# Altium footprint library DXPpcb.PCBLIB: 575 footprints (part 34 of 36)
Each footprint in its own frame and in the unit in brackets; x right, y up, seen from the top. Pads: shape width x height; smd on the part's side, far side on the other; paste and mask are expansions set on the pad; w line width, h text height; cw(c..) or ccw(c..) is an arc to the next point about the centre after c.
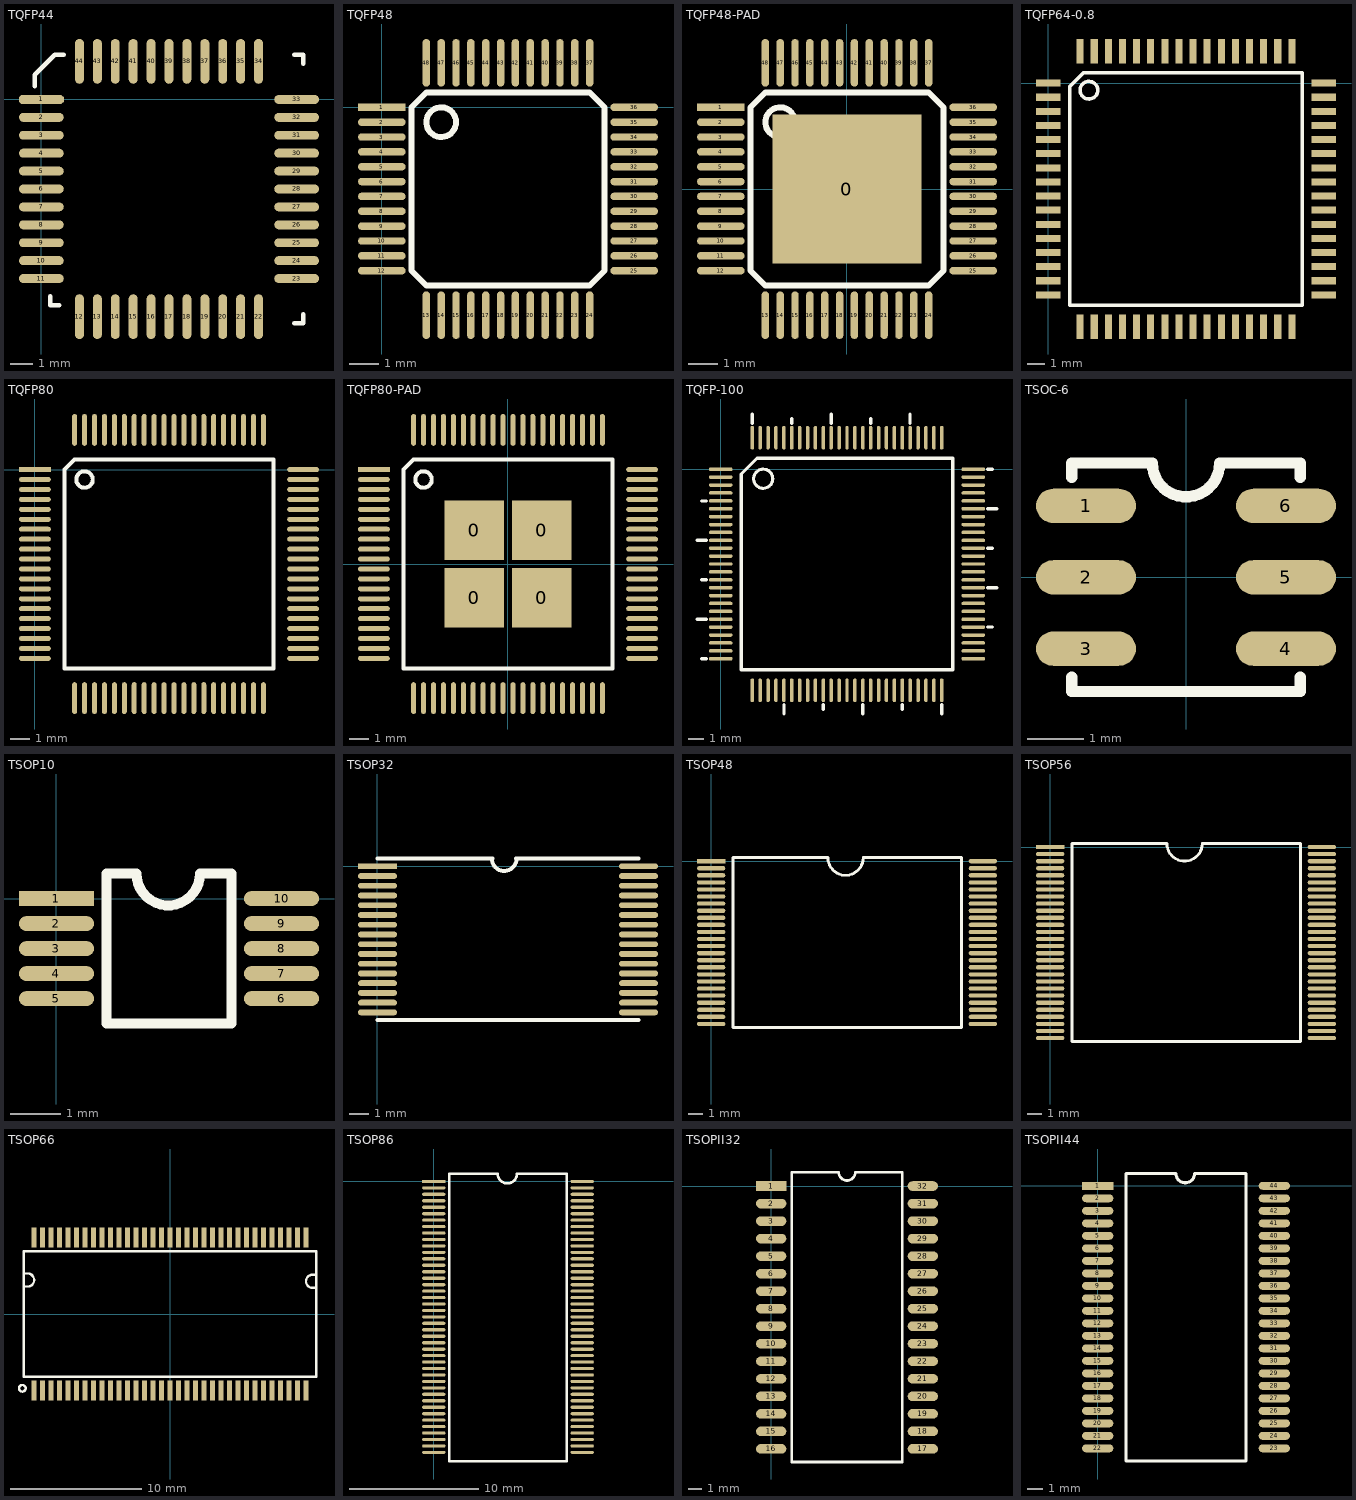
[diagram p33: the footprints below, top view; thin cyan lines are the x and y axes]

## TQFP44 [mm]
pads (44):
  oct 2x0.4 smd: 1(0,0)
  oval 2x0.4 smd: 2(0,-0.8) 3(0,-1.6) 4(0,-2.4) 5(0,-3.2) 6(0,-4) 7(0,-4.8) 8(0,-5.6) 9(0,-6.4) 10(0,-7.2) 11(0,-8) 23(11.4,-8) 24(11.4,-7.2) 25(11.4,-6.4) 26(11.4,-5.6) 27(11.4,-4.8) 28(11.4,-4) 29(11.4,-3.2) 30(11.4,-2.4) 31(11.4,-1.6) 32(11.4,-0.8) 33(11.4,0)
  oval 0.4x2 smd: 12(1.7,-9.7) 13(2.5,-9.7) 14(3.3,-9.7) 15(4.1,-9.7) 16(4.9,-9.7) 17(5.7,-9.7) 18(6.5,-9.7) 19(7.3,-9.7) 20(8.1,-9.7) 21(8.9,-9.7) 22(9.7,-9.7) 34(9.7,1.7) 35(8.9,1.7) 36(8.1,1.7) 37(7.3,1.7) 38(6.5,1.7) 39(5.7,1.7) 40(4.9,1.7) 41(4.1,1.7) 42(3.3,1.7) 43(2.5,1.7) 44(1.7,1.7)
TopOverlay:
  lines w0.2: -0.3,0.6 -0.3,1.1 0.6,2 1,2 ; 0.4,-8.8 0.4,-9.2 0.8,-9.2 ; 11.3,-10 11.7,-10 11.7,-9.6 ; 11.3,2 11.7,2 11.7,1.6

## TQFP48 [mm]
pads (48):
  rect 1.6x0.25 smd: 1(0,0)
  oval 1.6x0.25 smd: 2(0,-0.5) 3(0,-1) 4(0,-1.5) 5(0,-2) 6(0,-2.5) 7(0,-3) 8(0,-3.5) 9(0,-4) 10(0,-4.5) 11(0,-5) 12(0,-5.5) 25(8.5,-5.5) 26(8.5,-5) 27(8.5,-4.5) 28(8.5,-4) 29(8.5,-3.5) 30(8.5,-3) 31(8.5,-2.5) 32(8.5,-2) 33(8.5,-1.5) 34(8.5,-1) 35(8.5,-0.5) 36(8.5,0)
  oval 0.25x1.6 smd: 13(1.5,-7) 14(2,-7) 15(2.5,-7) 16(3,-7) 17(3.5,-7) 18(4,-7) 19(4.5,-7) 20(5,-7) 21(5.5,-7) 22(6,-7) 23(6.5,-7) 24(7,-7) 37(7,1.5) 38(6.5,1.5) 39(6,1.5) 40(5.5,1.5) 41(5,1.5) 42(4.5,1.5) 43(4,1.5) 44(3.5,1.5) 45(3,1.5) 46(2.5,1.5) 47(2,1.5) 48(1.5,1.5)
TopOverlay:
  circle w0.2: c2,-0.5 r0.5
  lines w0.2: 1,-5.5 1.5,-6 7,-6 7.5,-5.5 7.5,0 7,0.5 1.5,0.5 1,0 1,-5.5

## TQFP48-PAD [mm]
pads (49):
  rect 5x5 smd: 0(0,0)
  rect 1.6x0.25 smd: 1(-4.25,2.75)
  oval 1.6x0.25 smd: 2(-4.25,2.25) 3(-4.25,1.75) 4(-4.25,1.25) 5(-4.25,0.75) 6(-4.25,0.25) 7(-4.25,-0.25) 8(-4.25,-0.75) 9(-4.25,-1.25) 10(-4.25,-1.75) 11(-4.25,-2.25) 12(-4.25,-2.75) 25(4.25,-2.75) 26(4.25,-2.25) 27(4.25,-1.75) 28(4.25,-1.25) 29(4.25,-0.75) 30(4.25,-0.25) 31(4.25,0.25) 32(4.25,0.75) 33(4.25,1.25) 34(4.25,1.75) 35(4.25,2.25) 36(4.25,2.75)
  oval 0.25x1.6 smd: 13(-2.75,-4.25) 14(-2.25,-4.25) 15(-1.75,-4.25) 16(-1.25,-4.25) 17(-0.75,-4.25) 18(-0.25,-4.25) 19(0.25,-4.25) 20(0.75,-4.25) 21(1.25,-4.25) 22(1.75,-4.25) 23(2.25,-4.25) 24(2.75,-4.25) 37(2.75,4.25) 38(2.25,4.25) 39(1.75,4.25) 40(1.25,4.25) 41(0.75,4.25) 42(0.25,4.25) 43(-0.25,4.25) 44(-0.75,4.25) 45(-1.25,4.25) 46(-1.75,4.25) 47(-2.25,4.25) 48(-2.75,4.25)
TopOverlay:
  circle w0.2: c-2.25,2.25 r0.5
  lines w0.2: -3.25,-2.75 -3.25,2.75 -2.75,3.25 2.75,3.25 3.25,2.75 3.25,-2.75 2.75,-3.25 -2.75,-3.25 -3.25,-2.75

## TQFP64-0.8 [mm]
pads (64):
  rect 1.4x0.4 smd: 1(0,0) 2(0,-0.8) 3(0,-1.6) 4(0,-2.4) 5(0,-3.2) 6(0,-4) 7(0,-4.8) 8(0,-5.6) 9(0,-6.4) 10(0,-7.2) 11(0,-8) 12(0,-8.8) 13(0,-9.6) 14(0,-10.4) 15(0,-11.2) 16(0,-12) 33(15.6,-12) 34(15.6,-11.2) 35(15.6,-10.4) 36(15.6,-9.6) 37(15.6,-8.8) 38(15.6,-8) 39(15.6,-7.2) 40(15.6,-6.4) 41(15.6,-5.6) 42(15.6,-4.8) 43(15.6,-4) 44(15.6,-3.2) 45(15.6,-2.4) 46(15.6,-1.6) 47(15.6,-0.8) 48(15.6,0)
  rect 0.4x1.4 smd: 17(1.8,-13.8) 18(2.6,-13.8) 19(3.4,-13.8) 20(4.2,-13.8) 21(5,-13.8) 22(5.8,-13.8) 23(6.6,-13.8) 24(7.4,-13.8) 25(8.2,-13.8) 26(9,-13.8) 27(9.8,-13.8) 28(10.6,-13.8) 29(11.4,-13.8) 30(12.2,-13.8) 31(13,-13.8) 32(13.8,-13.8) 49(13.8,1.8) 50(13,1.8) 51(12.2,1.8) 52(11.4,1.8) 53(10.6,1.8) 54(9.8,1.8) 55(9,1.8) 56(8.2,1.8) 57(7.4,1.8) 58(6.6,1.8) 59(5.8,1.8) 60(5,1.8) 61(4.2,1.8) 62(3.4,1.8) 63(2.6,1.8) 64(1.8,1.8)
TopOverlay:
  circle w0.2: c2.3,-0.4 r0.5
  lines w0.2: 1.2,-12.6 1.2,-0.2 2,0.6 14.4,0.6 14.4,-12.6 1.2,-12.6

## TQFP80 [mm]
height 2
pads (80):
  rect 1.6x0.25 smd: 1(0,0)
  oval 1.6x0.25 smd: 2(0,-0.5) 3(0,-1) 4(0,-1.5) 5(0,-2) 6(0,-2.5) 7(0,-3) 8(0,-3.5) 9(0,-4) 10(0,-4.5) 11(0,-5) 12(0,-5.5) 13(0,-6) 14(0,-6.5) 15(0,-7) 16(0,-7.5) 17(0,-8) 18(0,-8.5) 19(0,-9) 20(0,-9.5) 41(13.5,-9.5) 42(13.5,-9) 43(13.5,-8.5) 44(13.5,-8) 45(13.5,-7.5) 46(13.5,-7) 47(13.5,-6.5) 48(13.5,-6) 49(13.5,-5.5) 50(13.5,-5) 51(13.5,-4.5) 52(13.5,-4) 53(13.5,-3.5) 54(13.5,-3) 55(13.5,-2.5) 56(13.5,-2) 57(13.5,-1.5) 58(13.5,-1) 59(13.5,-0.5) 60(13.5,0)
  oval 0.25x1.6 smd: 21(2,-11.5) 22(2.5,-11.5) 23(3,-11.5) 24(3.5,-11.5) 25(4,-11.5) 26(4.5,-11.5) 27(5,-11.5) 28(5.5,-11.5) 29(6,-11.5) 30(6.5,-11.5) 31(7,-11.5) 32(7.5,-11.5) 33(8,-11.5) 34(8.5,-11.5) 35(9,-11.5) 36(9.5,-11.5) 37(10,-11.5) 38(10.5,-11.5) 39(11,-11.5) 40(11.5,-11.5) 61(11.5,2) 62(11,2) 63(10.5,2) 64(10,2) 65(9.5,2) 66(9,2) 67(8.5,2) 68(8,2) 69(7.5,2) 70(7,2) 71(6.5,2) 72(6,2) 73(5.5,2) 74(5,2) 75(4.5,2) 76(4,2) 77(3.5,2) 78(3,2) 79(2.5,2) 80(2,2)
TopOverlay:
  circle w0.2: c2.5,-0.5 r0.412
  lines w0.2: 1.5,-10 12,-10 12,0.5 2,0.5 1.5,0 1.5,-10

## TQFP80-PAD [mm]
height 2
pads (84):
  rect 3x3 smd: 0(-1.7,-1.7) 0(-1.7,1.7) 0(1.7,-1.7) 0(1.7,1.7)
  rect 1.6x0.25 smd: 1(-6.75,4.75)
  oval 1.6x0.25 smd: 2(-6.75,4.25) 3(-6.75,3.75) 4(-6.75,3.25) 5(-6.75,2.75) 6(-6.75,2.25) 7(-6.75,1.75) 8(-6.75,1.25) 9(-6.75,0.75) 10(-6.75,0.25) 11(-6.75,-0.25) 12(-6.75,-0.75) 13(-6.75,-1.25) 14(-6.75,-1.75) 15(-6.75,-2.25) 16(-6.75,-2.75) 17(-6.75,-3.25) 18(-6.75,-3.75) 19(-6.75,-4.25) 20(-6.75,-4.75) 41(6.75,-4.75) 42(6.75,-4.25) 43(6.75,-3.75) 44(6.75,-3.25) 45(6.75,-2.75) 46(6.75,-2.25) 47(6.75,-1.75) 48(6.75,-1.25) 49(6.75,-0.75) 50(6.75,-0.25) 51(6.75,0.25) 52(6.75,0.75) 53(6.75,1.25) 54(6.75,1.75) 55(6.75,2.25) 56(6.75,2.75) 57(6.75,3.25) 58(6.75,3.75) 59(6.75,4.25) 60(6.75,4.75)
  oval 0.25x1.6 smd: 21(-4.75,-6.75) 22(-4.25,-6.75) 23(-3.75,-6.75) 24(-3.25,-6.75) 25(-2.75,-6.75) 26(-2.25,-6.75) 27(-1.75,-6.75) 28(-1.25,-6.75) 29(-0.75,-6.75) 30(-0.25,-6.75) 31(0.25,-6.75) 32(0.75,-6.75) 33(1.25,-6.75) 34(1.75,-6.75) 35(2.25,-6.75) 36(2.75,-6.75) 37(3.25,-6.75) 38(3.75,-6.75) 39(4.25,-6.75) 40(4.75,-6.75) 61(4.75,6.75) 62(4.25,6.75) 63(3.75,6.75) 64(3.25,6.75) 65(2.75,6.75) 66(2.25,6.75) 67(1.75,6.75) 68(1.25,6.75) 69(0.75,6.75) 70(0.25,6.75) 71(-0.25,6.75) 72(-0.75,6.75) 73(-1.25,6.75) 74(-1.75,6.75) 75(-2.25,6.75) 76(-2.75,6.75) 77(-3.25,6.75) 78(-3.75,6.75) 79(-4.25,6.75) 80(-4.75,6.75)
TopOverlay:
  circle w0.2: c-4.25,4.25 r0.412
  lines w0.2: -5.25,-5.25 5.25,-5.25 5.25,5.25 -4.75,5.25 -5.25,4.75 -5.25,-5.25

## TQFP-100 [mm]
pads (100):
  oval 1.5x0.22 smd: 1(0,0) 2(0,-0.5) 3(0,-1) 4(0,-1.5) 5(0,-2) 6(0,-2.5) 7(0,-3) 8(0,-3.5) 9(0,-4) 10(0,-4.5) 11(0,-5) 12(0,-5.5) 13(0,-6) 14(0,-6.5) 15(0,-7) 16(0,-7.5) 17(0,-8) 18(0,-8.5) 19(0,-9) 20(0,-9.5) 21(0,-10) 22(0,-10.5) 23(0,-11) 24(0,-11.5) 25(0,-12) 51(16,-12) 52(16,-11.5) 53(16,-11) 54(16,-10.5) 55(16,-10) 56(16,-9.5) 57(16,-9) 58(16,-8.5) 59(16,-8) 60(16,-7.5) 61(16,-7) 62(16,-6.5) 63(16,-6) 64(16,-5.5) 65(16,-5) 66(16,-4.5) 67(16,-4) 68(16,-3.5) 69(16,-3) 70(16,-2.5) 71(16,-2) 72(16,-1.5) 73(16,-1) 74(16,-0.5) 75(16,0)
  oval 0.22x1.5 smd: 26(2,-14) 27(2.5,-14) 28(3,-14) 29(3.5,-14) 30(4,-14) 31(4.5,-14) 32(5,-14) 33(5.5,-14) 34(6,-14) 35(6.5,-14) 36(7,-14) 37(7.5,-14) 38(8,-14) 39(8.5,-14) 40(9,-14) 41(9.5,-14) 42(10,-14) 43(10.5,-14) 44(11,-14) 45(11.5,-14) 46(12,-14) 47(12.5,-14) 48(13,-14) 49(13.5,-14) 50(14,-14) 76(14,2) 77(13.5,2) 78(13,2) 79(12.5,2) 80(12,2) 81(11.5,2) 82(11,2) 83(10.5,2) 84(10,2) 85(9.5,2) 86(9,2) 87(8.5,2) 88(8,2) 89(7.5,2) 90(7,2) 91(6.5,2) 92(6,2) 93(5.5,2) 94(5,2) 95(4.5,2) 96(4,2) 97(3.5,2) 98(3,2) 99(2.5,2) 100(2,2)
TopOverlay:
  circle w0.2: c2.692,-0.6 r0.608
  lines w0.2: -1.5,-9.5 -0.9,-9.5 ; -1.5,-4.5 -0.9,-4.5 ; -1.2,-12 -0.9,-12 ; -1.2,-7 -0.9,-7 ; -1.2,-2 -0.9,-2 ; 1.3,-12.63 1.3,-12.7 ; 2,2.9 2,3.5 ; 4,-15.5 4,-14.9 ; 4.5,2.9 4.5,3.2 ; 6.5,-15.2 6.5,-14.9 ; 7,2.9 7,3.5 ; 9,-15.5 9,-14.9 ; 9.5,2.9 9.5,3.2 ; 11.5,-15.2 11.5,-14.9 ; 12,2.9 12,3.5 ; 14,-15.5 14,-14.9 ; 16.9,-10 17.2,-10 ; 16.9,-7.5 17.5,-7.5 ; 16.9,-5 17.2,-5 ; 16.9,-2.5 17.5,-2.5 ; 16.9,0 17.2,0 ; 1.3,-12.7 1.3,-0.3 2.3,0.7 14.7,0.7 14.7,0.6 14.7,-12.7 ; 1.3,-12.7 14.7,-12.7 ; 1.3,-12.7 14.7,-12.7

## TSOC-6 [mil]
pads (6):
  oval 70x24 smd: 1(-70,50) 2(-70,0) 3(-70,-50) 4(70,-50) 5(70,0) 6(70,50)
TopOverlay:
  lines w7.87: -80,-70 -80,-80 80,-80 80,-70 ; -80,70 -80,80 -23.62,80 ccw(c0,80) 23.62,80 80,80 80,70

## TSOP10 [mm]
pads (10):
  rect 1.5x0.3 smd: 1(0,0)
  oval 1.5x0.3 smd: 2(0,-0.5) 3(0,-1) 4(0,-1.5) 5(0,-2) 6(4.5,-2) 7(4.5,-1.5) 8(4.5,-1) 9(4.5,-0.5) 10(4.5,0)
TopOverlay:
  lines w0.2: 2.87,0.5 cw(c2.235,0.5) 1.6,0.5 1,0.5 1,-2.5 3.5,-2.5 3.5,0.5 2.9,0.5

## TSOP32 [mm]
pads (32):
  rect 2x0.3 smd: 1(0,0)
  oval 2x0.3 smd: 2(0,-0.5) 3(0,-1) 4(0,-1.5) 5(0,-2) 6(0,-2.5) 7(0,-3) 8(0,-3.5) 9(0,-4) 10(0,-4.5) 11(0,-5) 12(0,-5.5) 13(0,-6) 14(0,-6.5) 15(0,-7) 16(0,-7.5) 17(13.4,-7.5) 18(13.4,-7) 19(13.4,-6.5) 20(13.4,-6) 21(13.4,-5.5) 22(13.4,-5) 23(13.4,-4.5) 24(13.4,-4) 25(13.4,-3.5) 26(13.4,-3) 27(13.4,-2.5) 28(13.4,-2) 29(13.4,-1.5) 30(13.4,-1) 31(13.4,-0.5) 32(13.4,0)
TopOverlay:
  lines w0.2: 0,-7.9 13.4,-7.9 ; 0,0.4 5.9,0.4 ; 5.865,0.4 ccw(c6.5,0.4) 7.135,0.4 ; 7.1,0.4 13.4,0.4

## TSOP48 [mm]
pads (48):
  rect 2x0.3 smd: 1(0,0)
  oval 2x0.3 smd: 2(0,-0.5) 3(0,-1) 4(0,-1.5) 5(0,-2) 6(0,-2.5) 7(0,-3) 8(0,-3.5) 9(0,-4) 10(0,-4.5) 11(0,-5) 12(0,-5.5) 13(0,-6) 14(0,-6.5) 15(0,-7) 16(0,-7.5) 17(0,-8) 18(0,-8.5) 19(0,-9) 20(0,-9.5) 21(0,-10) 22(0,-10.5) 23(0,-11) 24(0,-11.5) 25(19.2,-11.5) 26(19.2,-11) 27(19.2,-10.5) 28(19.2,-10) 29(19.2,-9.5) 30(19.2,-9) 31(19.2,-8.5) 32(19.2,-8) 33(19.2,-7.5) 34(19.2,-7) 35(19.2,-6.5) 36(19.2,-6) 37(19.2,-5.5) 38(19.2,-5) 39(19.2,-4.5) 40(19.2,-4) 41(19.2,-3.5) 42(19.2,-3) 43(19.2,-2.5) 44(19.2,-2) 45(19.2,-1.5) 46(19.2,-1) 47(19.2,-0.5) 48(19.2,0)
TopOverlay:
  lines w0.2: 1.55,-11.75 1.55,0.25 8.25,0.25 ccw(c9.5,0.25) 10.75,0.25 17.7,0.25 17.7,-11.75 1.55,-11.75

## TSOP56 [mm]
pads (56):
  rect 2x0.3 smd: 1(0,0)
  oval 2x0.3 smd: 2(0,-0.5) 3(0,-1) 4(0,-1.5) 5(0,-2) 6(0,-2.5) 7(0,-3) 8(0,-3.5) 9(0,-4) 10(0,-4.5) 11(0,-5) 12(0,-5.5) 13(0,-6) 14(0,-6.5) 15(0,-7) 16(0,-7.5) 17(0,-8) 18(0,-8.5) 19(0,-9) 20(0,-9.5) 21(0,-10) 22(0,-10.5) 23(0,-11) 24(0,-11.5) 25(0,-12) 26(0,-12.5) 27(0,-13) 28(0,-13.5) 29(19.2,-13.5) 30(19.2,-13) 31(19.2,-12.5) 32(19.2,-12) 33(19.2,-11.5) 34(19.2,-11) 35(19.2,-10.5) 36(19.2,-10) 37(19.2,-9.5) 38(19.2,-9) 39(19.2,-8.5) 40(19.2,-8) 41(19.2,-7.5) 42(19.2,-7) 43(19.2,-6.5) 44(19.2,-6) 45(19.2,-5.5) 46(19.2,-5) 47(19.2,-4.5) 48(19.2,-4) 49(19.2,-3.5) 50(19.2,-3) 51(19.2,-2.5) 52(19.2,-2) 53(19.2,-1.5) 54(19.2,-1) 55(19.2,-0.5) 56(19.2,0)
TopOverlay:
  lines w0.2: 1.55,-13.75 17.7,-13.75 17.7,0.25 10.75,0.25 cw(c9.5,0.25) 8.25,0.25 1.55,0.25 1.55,-13.75

## TSOP66 [mil]
pads (66):
  rect 15x60 smd: 1(-409.45,-230.31) 2(-383.86,-230.31) 3(-358.27,-230.31) 4(-332.68,-230.31) 5(-307.09,-230.31) 6(-281.5,-230.31) 7(-255.91,-230.31) 8(-230.31,-230.31) 9(-204.72,-230.31) 10(-179.13,-230.31) 11(-153.54,-230.31) 12(-127.95,-230.31) 13(-102.36,-230.31) 14(-76.77,-230.31) 15(-51.18,-230.31) 16(-25.59,-230.31) 17(0,-230.31) 18(25.59,-230.31) 19(51.18,-230.31) 20(76.77,-230.31) 21(102.36,-230.31) 22(127.95,-230.31) 23(153.54,-230.31) 24(179.13,-230.31) 25(204.72,-230.31) 26(230.31,-230.31) 27(255.91,-230.31) 28(281.5,-230.31) 29(307.09,-230.31) 30(332.68,-230.31) 31(358.27,-230.31) 32(383.86,-230.31) 33(409.45,-230.31) 34(409.45,230.31) 35(383.86,230.31) 36(358.27,230.31) 37(332.68,230.31) 38(307.09,230.31) 39(281.5,230.31) 40(255.91,230.31) 41(230.31,230.31) 42(204.72,230.31) 43(179.13,230.31) 44(153.54,230.31) 45(127.95,230.31) 46(102.36,230.31) 47(76.77,230.31) 48(51.18,230.31) 49(25.59,230.31) 50(0,230.31) 51(-25.59,230.31) 52(-51.18,230.31) 53(-76.77,230.31) 54(-102.36,230.31) 55(-127.95,230.31) 56(-153.54,230.31) 57(-179.13,230.31) 58(-204.72,230.31) 59(-230.31,230.31) 60(-255.91,230.31) 61(-281.5,230.31) 62(-307.09,230.31) 63(-332.68,230.31) 64(-358.27,230.31) 65(-383.86,230.31) 66(-409.45,230.31)
TopOverlay:
  circle w7: c-445,-223.81 r10
  lines w7: -440.94,82.68 -430.94,82.68 ; -440.94,122.05 -429.13,122.05 cw(c-429.13,102.36) -429.13,82.68 ; 440.94,78.74 429.13,78.74 cw(c429.13,98.43) 429.13,118.11 440.94,118.11 ; -440.94,-188.98 -440.94,188.98 440.94,188.98 440.94,-188.98 -440.94,-188.98

## TSOP86 [mm]
pads (86):
  rect 1.8x0.25 smd: 1(0,0)
  oval 1.8x0.25 smd: 2(0,-0.5) 3(0,-1) 4(0,-1.5) 5(0,-2) 6(0,-2.5) 7(0,-3) 8(0,-3.5) 9(0,-4) 10(0,-4.5) 11(0,-5) 12(0,-5.5) 13(0,-6) 14(0,-6.5) 15(0,-7) 16(0,-7.5) 17(0,-8) 18(0,-8.5) 19(0,-9) 20(0,-9.5) 21(0,-10) 22(0,-10.5) 23(0,-11) 24(0,-11.5) 25(0,-12) 26(0,-12.5) 27(0,-13) 28(0,-13.5) 29(0,-14) 30(0,-14.5) 31(0,-15) 32(0,-15.5) 33(0,-16) 34(0,-16.5) 35(0,-17) 36(0,-17.5) 37(0,-18) 38(0,-18.5) 39(0,-19) 40(0,-19.5) 41(0,-20) 42(0,-20.5) 43(0,-21) 44(11.5,-21) 45(11.5,-20.5) 46(11.5,-20) 47(11.5,-19.5) 48(11.5,-19) 49(11.5,-18.5) 50(11.5,-18) 51(11.5,-17.5) 52(11.5,-17) 53(11.5,-16.5) 54(11.5,-16) 55(11.5,-15.5) 56(11.5,-15) 57(11.5,-14.5) 58(11.5,-14) 59(11.5,-13.5) 60(11.5,-13) 61(11.5,-12.5) 62(11.5,-12) 63(11.5,-11.5) 64(11.5,-11) 65(11.5,-10.5) 66(11.5,-10) 67(11.5,-9.5) 68(11.5,-9) 69(11.5,-8.5) 70(11.5,-8) 71(11.5,-7.5) 72(11.5,-7) 73(11.5,-6.5) 74(11.5,-6) 75(11.5,-5.5) 76(11.5,-5) 77(11.5,-4.5) 78(11.5,-4) 79(11.5,-3.5) 80(11.5,-3) 81(11.5,-2.5) 82(11.5,-2) 83(11.5,-1.5) 84(11.5,-1) 85(11.5,-0.5) 86(11.5,0)
TopOverlay:
  lines w0.2: 4.9,0.6 1.2,0.6 1.2,-21.7 10.3,-21.7 10.3,0.6 6.5,0.6 ; 4.95,0.6 ccw(c5.7,0.6) 6.45,0.6

## TSOPII32 [mm]
pads (32):
  rect 2.2x0.7 smd: 1(0,0)
  oval 2.2x0.7 smd: 2(0,-1.27) 3(0,-2.54) 4(0,-3.81) 5(0,-5.08) 6(0,-6.35) 7(0,-7.62) 8(0,-8.89) 9(0,-10.16) 10(0,-11.43) 11(0,-12.7) 12(0,-13.97) 13(0,-15.24) 14(0,-16.51) 15(0,-17.78) 16(0,-19.05) 17(11,-19.05) 18(11,-17.78) 19(11,-16.51) 20(11,-15.24) 21(11,-13.97) 22(11,-12.7) 23(11,-11.43) 24(11,-10.16) 25(11,-8.89) 26(11,-7.62) 27(11,-6.35) 28(11,-5.08) 29(11,-3.81) 30(11,-2.54) 31(11,-1.27) 32(11,0)
TopOverlay:
  lines w0.2: 1.5,-20 1.5,1 4.9,1 ccw(c5.5,1) 6.1,1 9.5,1 9.5,-20 1.5,-20

## TSOPII44 [mm]
pads (44):
  rect 2x0.5 smd: 1(0,0)
  oval 2x0.5 smd: 2(0,-0.8) 3(0,-1.6) 4(0,-2.4) 5(0,-3.2) 6(0,-4) 7(0,-4.8) 8(0,-5.6) 9(0,-6.4) 10(0,-7.2) 11(0,-8) 12(0,-8.8) 13(0,-9.6) 14(0,-10.4) 15(0,-11.2) 16(0,-12) 17(0,-12.8) 18(0,-13.6) 19(0,-14.4) 20(0,-15.2) 21(0,-16) 22(0,-16.8) 23(11.3,-16.8) 24(11.3,-16) 25(11.3,-15.2) 26(11.3,-14.4) 27(11.3,-13.6) 28(11.3,-12.8) 29(11.3,-12) 30(11.3,-11.2) 31(11.3,-10.4) 32(11.3,-9.6) 33(11.3,-8.8) 34(11.3,-8) 35(11.3,-7.2) 36(11.3,-6.4) 37(11.3,-5.6) 38(11.3,-4.8) 39(11.3,-4) 40(11.3,-3.2) 41(11.3,-2.4) 42(11.3,-1.6) 43(11.3,-0.8) 44(11.3,0)
TopOverlay:
  lines w0.2: 1.8,-17.6 9.5,-17.6 9.5,0.8 6.2,0.8 cw(c5.6,0.8) 5,0.8 1.8,0.8 1.8,-17.6